# Altium footprint library GSM.PcbLib: 2 footprints
Each footprint in its own frame and in the unit in brackets; x right, y up, seen from the top. Pads: shape width x height; smd on the part's side, far side on the other; paste and mask are expansions set on the pad; w line width, h text height; cw(c..) or ccw(c..) is an arc to the next point about the centre after c.
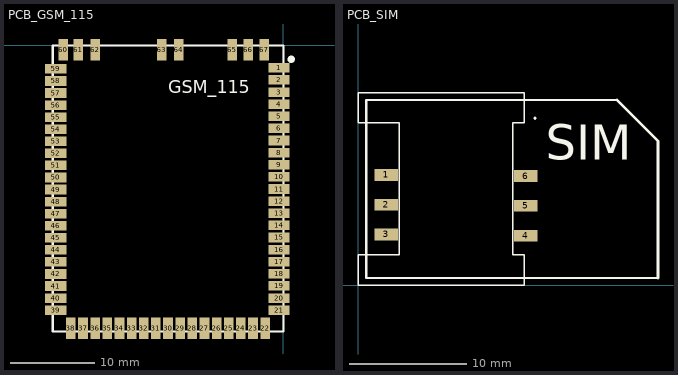
[diagram p0: the footprints below, top view; thin cyan lines are the x and y axes]

## PCB_GSM_115 [mil]
pads (67):
  rect 100x45 smd: 1(-20,-105) 2(-20,-161.75) 3(-20,-218.5) 4(-20,-275.25) 5(-20,-332) 6(-20,-388.75) 7(-20,-445.5) 8(-20,-502.25) 9(-20,-559) 10(-20,-615.75) 11(-20,-672.5) 12(-20,-729.25) 13(-20,-786) 14(-20,-842.75) 15(-20,-899.5) 16(-20,-956.25) 17(-20,-1013) 18(-20,-1069.75) 19(-20,-1126.5) 20(-20,-1183.25) 21(-20,-1240) 39(-1065,-1240) 40(-1065,-1183.5) 41(-1065,-1127) 42(-1065,-1070.5) 43(-1065,-1014) 44(-1065,-957.5) 45(-1065,-901) 46(-1065,-844.5) 47(-1065,-788) 48(-1065,-731.5) 49(-1065,-675) 50(-1065,-618.5) 51(-1065,-562) 52(-1065,-505.5) 53(-1065,-449) 54(-1065,-392.5) 55(-1065,-336) 56(-1065,-279.5) 57(-1065,-223) 58(-1065,-166.5) 59(-1065,-110)
  rect 45x100 smd: 22(-85,-1325) 23(-141.88,-1325) 24(-198.75,-1325) 25(-255.62,-1325) 26(-312.5,-1325) 27(-369.38,-1325) 28(-426.25,-1325) 29(-483.12,-1325) 30(-540,-1325) 31(-596.88,-1325) 32(-653.75,-1325) 33(-710.62,-1325) 34(-767.5,-1325) 35(-824.38,-1325) 36(-881.25,-1325) 37(-938.12,-1325) 38(-995,-1325) 60(-1030,-20) 61(-960,-20) 62(-880,-20) 63(-570,-20) 64(-490,-20) 65(-240,-20) 66(-165,-20) 67(-90,-20)
Top Overlay:
  circle w20: c37.07,-65 r7.07
  lines w10: -1080,-1340 0,-1340 0,0 -1080,0 -1080,-1340
  text "GSM_115" at -540,-225 h60

## PCB_SIM [mm]
pads (6):
  rect 2x1 smd: 1(2.4,9.4) 2(2.4,6.86) 3(2.4,4.32) 4(14.3,4.22) 5(14.3,6.76) 6(14.3,9.3)
Top Overlay:
  lines w0.127: 0,0 0,2.575 3.5,2.575 3.5,13.85 0,13.85 0,16.4 14.2,16.4 14.2,13.85 13.2,13.85 13.2,2.575 14.2,2.575 14.2,0 0,0
  lines w0.2: 22.1,15.8 0.7,15.8 0.7,0.6 25.6,0.6
  lines w0.254: 15.1,14.2 15.1,14.25 ; 22.1,15.8 25.6,12.3 25.6,0.6
  text "SIM" at 16,10.7 h3